# Altium footprint library PCB_Lib.PcbLib: 286 footprints (part 8 of 18)
Each footprint in its own frame and in the unit in brackets; x right, y up, seen from the top. Pads: shape width x height; smd on the part's side, far side on the other; paste and mask are expansions set on the pad; w line width, h text height; cw(c..) or ccw(c..) is an arc to the next point about the centre after c.
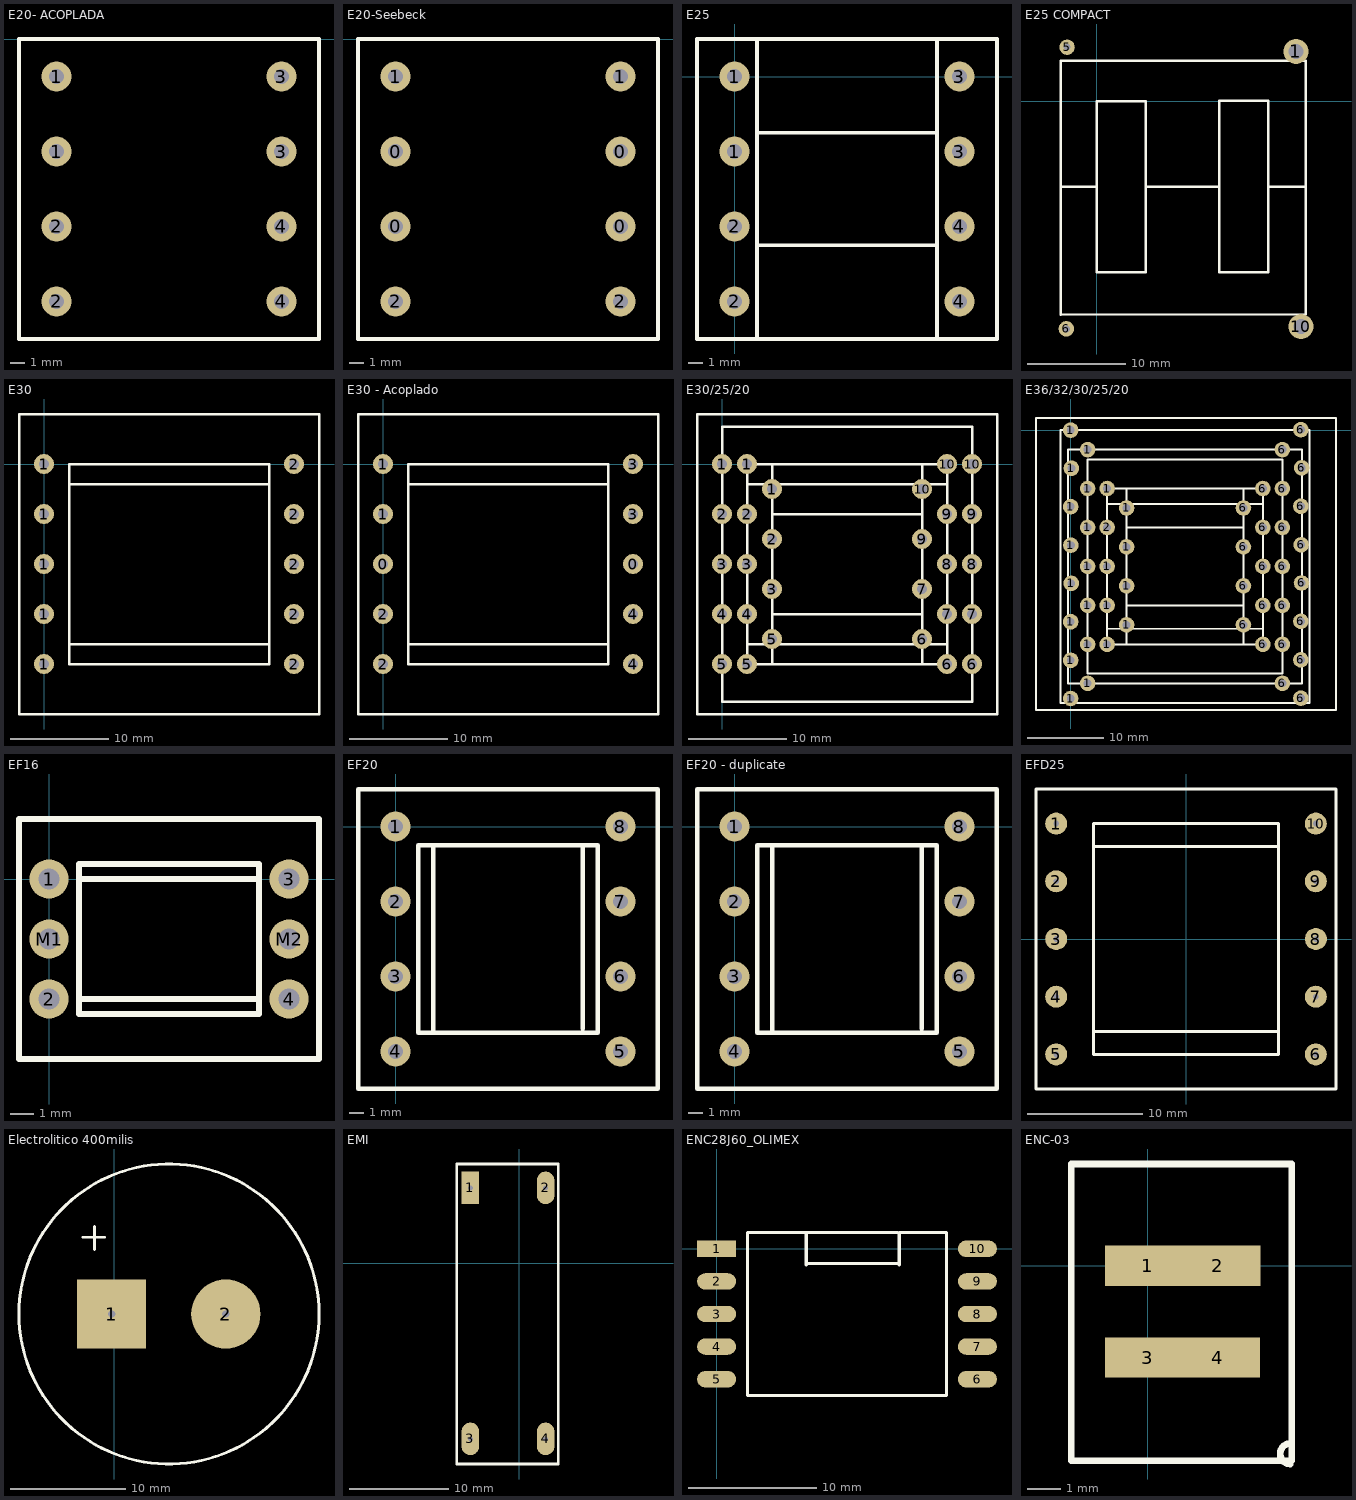
[diagram p7: the footprints below, top view; thin cyan lines are the x and y axes]

## E20- ACOPLADA [mil]
pads (8):
  round 80 hole 40: 1(200,-300) 1(200,-100) 2(200,-700) 2(200,-500) 3(800,-300) 3(800,-100) 4(800,-700) 4(800,-500)
Top Overlay:
  lines w10: 200,-800 800,-800 ; 200,0 800,0 ; 100,-800 100,0 900,0 900,-800 100,-800

## E20-Seebeck [mil]
pads (8):
  round 80 hole 40: 0(200,-500) 0(200,-300) 0(800,-500) 0(800,-300) 1(200,-100) 1(800,-100) 2(200,-700) 2(800,-700)
Top Overlay:
  lines w10: 200,-800 800,-800 ; 200,0 800,0 ; 100,-800 900,-800 900,0 100,0 100,-800

## E25 [mil]
pads (8):
  round 80 hole 40: 1(0,-200) 1(0,0) 2(0,-600) 2(0,-400) 3(600,-200) 3(600,0) 4(600,-600) 4(600,-400)
Top Overlay:
  lines w10: 60,-700 60,100 ; 60,-450 540,-450 ; 60,-150 540,-150 ; 540,-700 540,100 ; -100,-700 -100,100 700,100 700,-700 -100,-700

## E25 COMPACT [mil]
pads (4):
  round 100 hole 60: 1(800,200) 10(820,-906)
  round 62 hole 28: 5(-120,217) 6(-123,-915)
Top Overlay:
  lines w10: -145,-343 -145,-858 840,-857 840,-343 ; -145,-343 0,-343 ; -145,-343 -145,162 840,162 840,-343 ; 0,-343 0,-687 197,-687 197,-344 ; 0,-343 0,0 197,0 197,-344 ; 197,-344 492,-344 ; 492,-344 492,-688 689,-688 689,-343 ; 492,-344 492,1 689,1 689,-343 ; 689,-343 840,-343

## E30 [mil]
pads (10):
  round 80 hole 40: 1(0,-800) 1(0,-600) 1(0,-400) 1(0,-200) 1(0,0) 2(1000,-800) 2(1000,-600) 2(1000,-400) 2(1000,-200) 2(1000,0)
Top Overlay:
  lines w10: 100,-720 900,-720 ; 100,-80 900,-80 ; -100,-1000 -100,200 1100,200 1100,-1000 -100,-1000 ; 100,-800 100,0 900,0 900,-800 100,-800

## E30 - Acoplado [mil]
pads (10):
  round 80 hole 40: 0(0,-400) 0(1000,-400) 1(0,-200) 1(0,0) 2(0,-800) 2(0,-600) 3(1000,-200) 3(1000,0) 4(1000,-800) 4(1000,-600)
Top Overlay:
  lines w10: 100,-720 900,-720 ; 100,-80 900,-80 ; -100,-1000 -100,200 1100,200 1100,-1000 -100,-1000 ; 100,-800 100,0 900,0 900,-800 100,-800

## E30/25/20 [mil]
pads (28):
  round 80 hole 40: 1(0,0) 1(100,0) 1(200,-100) 2(0,-200) 2(100,-200) 2(200,-300) 3(0,-400) 3(100,-400) 3(200,-500) 4(0,-600) 4(100,-600) 5(0,-800) 5(100,-800) 5(200,-700) 6(800,-700) 6(900,-800) 6(1000,-800) 7(800,-500) 7(900,-600) 7(1000,-600) 8(900,-400) 8(1000,-400) 9(800,-300) 9(900,-200) 9(1000,-200) 10(800,-100) 10(900,0) 10(1000,0)
Top Overlay:
  lines w10: 100,-720 900,-720 ; 100,-80 900,-80 ; 200,-600 800,-600 ; 200,-200 800,-200 ; -100,-1000 -100,200 1100,200 1100,-1000 -100,-1000 ; 0,-950 0,150 1000,150 1000,-950 0,-950 ; 100,-800 100,0 900,0 900,-800 100,-800 ; 200,-800 800,-800 800,0 200,0 200,-800

## E36/32/30/25/20 [mil]
pads (48):
  round 80 hole 40: 1(0,-1378) 1(0,-1182) 1(0,-984) 1(0,-393) 1(0,0) 1(1,-591) 1(3,-787) 1(4,-196) 1(87,-1300) 1(87,-1100) 1(87,-900) 1(87,-700) 1(87,-500) 1(87,-300) 1(87,-100) 1(187,-1100) 1(187,-900) 1(187,-700) 1(187,-300) 1(287,-1000) 1(287,-800) 1(287,-600) 1(287,-400) 2(187,-500) 6(887,-1000) 6(887,-800) 6(887,-600) 6(887,-400) 6(987,-1100) 6(987,-900) 6(987,-700) 6(987,-500) 6(987,-300) 6(1087,-1300) 6(1087,-1100) 6(1087,-900) 6(1087,-700) 6(1087,-500) 6(1087,-300) 6(1087,-100) 6(1182,-1376) 6(1182,-1180) 6(1182,-982) 6(1182,-391) 6(1182,2) 6(1183,-589) 6(1185,-785) 6(1186,-194)
Top Overlay:
  lines w10: 187,-1020 987,-1020 ; 187,-380 987,-380 ; 287,-900 887,-900 ; 287,-500 887,-500 ; -178,-1438 -178,63 1362,63 1362,-1438 -178,-1438 ; -53,-1400 -53,0 1227,0 1227,-1400 -53,-1400 ; -13,-1300 1187,-1300 1187,-100 -13,-100 -13,-1300 ; 87,-1250 1087,-1250 1087,-150 87,-150 87,-1250 ; 187,-1100 987,-1100 987,-300 187,-300 187,-1100 ; 287,-1100 287,-300 887,-300 887,-1100 287,-1100

## EF16 [mil]
pads (6):
  round 65 hole 35: 1(0,0) 2(0,-200) 3(400,0) 4(400,-200) M1(0,-100) M2(400,-100)
Top Overlay:
  lines w10: 50,-200 350,-200 ; 50,0 350,0 ; -50,-300 -50,100 450,100 450,-300 -50,-300 ; 50,-225 350,-225 350,25 50,25 50,-225

## EF20 [mil]
pads (8):
  round 80 hole 40: 1(0,0) 2(0,-200) 3(0,-400) 4(0,-600) 5(600,-600) 6(600,-400) 7(600,-200) 8(600,0)
Top Overlay:
  lines w12: 100,-550 100,-50 ; 500,-540 500,-50 ; -100,-700 700,-700 700,100 -100,100 -100,-700 ; 60,-550 540,-550 540,-50 60,-50 60,-550

## EF20 - duplicate [mil]
pads (8):
  round 80 hole 40: 1(0,0) 2(0,-200) 3(0,-400) 4(0,-600) 5(600,-600) 6(600,-400) 7(600,-200) 8(600,0)
Top Overlay:
  lines w12: 100,-550 100,-50 ; 500,-540 500,-50 ; -100,-700 700,-700 700,100 -100,100 -100,-700 ; 60,-550 540,-550 540,-50 60,-50 60,-550

## EFD25 [mm] "Footprin para el núcleo EFD25 con carrete normalizado"
pads (10):
  round 1.905 hole 0.508: 1(-11.25,10) 2(-11.25,5) 3(-11.25,0) 4(-11.25,-5) 5(-11.25,-10) 6(11.25,-10) 7(11.25,-5) 8(11.256,0) 9(11.25,5) 10(11.25,10)
Top Overlay:
  lines w0.254: -11.247,-10.022 -11.222,-9.997 ; -8,-8 8,-8 ; -8,8 8,8 ; -13,-13 13,-13 13,13 -13,13 -13,-13 ; -8,-10 8,-10 8,10 -8,10 -8,-10

## Electrolitico 400milis [mm] "100uF 400v"
height 100
pads (2):
  rect 6x6 hole 0.635: 1(-0.25,16.025)
  round 6 hole 0.635: 2(9.65,16.025)
Top Overlay:
  circle w0.254: c4.725,16.025 r13
  lines w0.254: -2.75,22.675 -0.85,22.675 ; -1.75,21.6 -1.75,23.625

## EMI [mil] "Filtro EMI"
pads (4):
  rect 70x130 hole 20: 1(-195,300)
  oval 70x130 hole 20: 2(105,300) 3(-195,-700) 4(105,-700)
Top Overlay:
  lines w10: 155,-800 -250,-800 -250,395 -85,395 155,395 155,-795

## ENC28J60_OLIMEX [mil]
pads (10):
  rect 120x50 hole 5: 1(0,0)
  oval 120x50 hole 5: 2(0,-100) 3(0,-200) 4(0,-300) 5(0,-400) 6(800,-400) 7(800,-300) 8(800,-200) 9(800,-100) 10(800,0)
Top Overlay:
  lines w10: 275,-50 275,50 ; 275,-45 555,-45 ; 555,50 275,50 ; 560,-50 560,50 705,50 705,-450 95,-450 95,50 275,50

## ENC-03 [mm]
pads (4):
  rect 2.553x1.2 smd: 1(0,0) 2(2.1,0) 3(0,-2.75)
  rect 2.54x1.2 smd: 4(2.1,-2.75)
Top Overlay:
  lines w0.2: 0.363,3.048 4.318,3.048 4.318,-5.842 -2.286,-5.842 -2.286,3.048 1.737,3.048 ; 4.275,-5.94 cw(c4.275,-5.632) 4.275,-5.325